# EAGLE library part WL-T7DS_0.39INCH_COMMON-CATHODE (library Wurth_7 Segments Display_WL-T7DS)
WL-T7DS 7 Segments Display THT Single Digit Characteristics Industrial standard size and schematic Low power consumption Grey surface Milky / Diffuesed segments Driving with DC current in forward direction only Suitable for high peak current upto 100 mA Applications Audio / measure equipment Instrument panels Digital read out display Control units <https://www.we-online.com/catalog/media/o447285v209%20WL_T7DS_Group.jpg> Details see: www.we-online.com/catalog/WL-T7DS <www.we-online.com/catalog/WL-T7DS/?utm_source=eagle_model&utm_medium=description_link&utm_campaign=eisos_eagle> Updated by Ella Wu, 2021-09-06 2022 (C) Wurth Elektronik
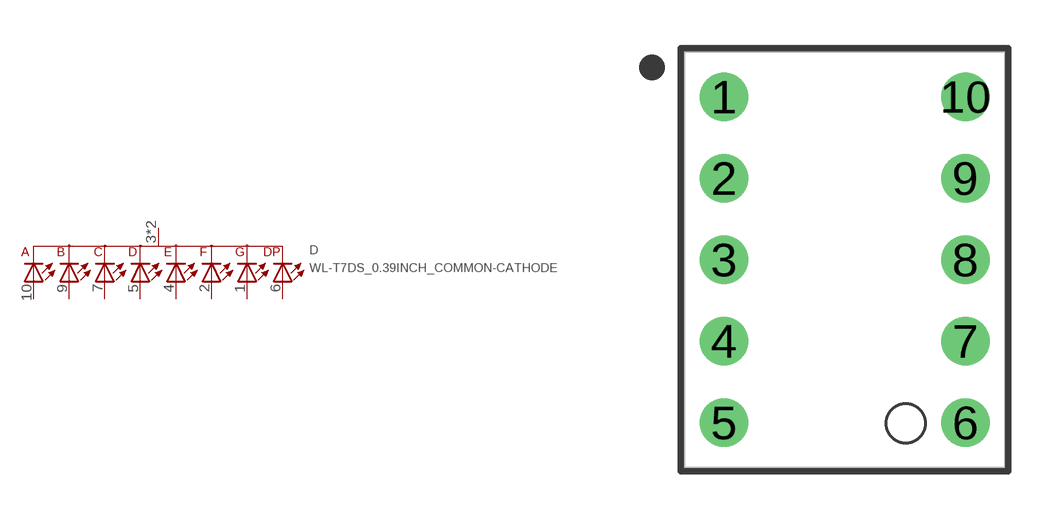
[diagram p4: symbol with the pads of WL-T7DS_0.39INCH; footprint WL-T7DS_0.39INCH]

Designator prefix D

## WL-T7DS_0.39INCH_COMMON-CATHODE_157119B12701 (CIRCUITRY: Common Cathode; DATASHEET-URL: https://www.we-online.com/redexpert/spec/157119B12701?ae; EMITTING-COLOR: Blue; HEIGHT: 7mm; IV-TYP: 32mcd; LENGTH: 13mm; PART-NUMBER: 157119B12701; VALUE: 157119B12701; VF-TYP: 3V; WIDTH: 10mm), WL-T7DS_0.39INCH_COMMON-CATHODE_157119S12701 (CIRCUITRY: Common Cathode; DATASHEET-URL: https://www.we-online.com/redexpert/spec/157119S12701?ae; EMITTING-COLOR: Super Red; HEIGHT: 7mm; IV-TYP: 38mcd; LENGTH: 13mm; PART-NUMBER: 157119S12701; VALUE: 157119S12701; VF-TYP: 2V; WIDTH: 10mm), WL-T7DS_0.39INCH_COMMON-CATHODE_157119V12701 (CIRCUITRY: Common Cathode; DATASHEET-URL: https://www.we-online.com/redexpert/spec/157119V12701?ae; EMITTING-COLOR: Bright Green; HEIGHT: 7mm; IV-TYP: 46mcd; LENGTH: 13mm; PART-NUMBER: 157119V12701; VALUE: 157119V12701; VF-TYP: 2.2V; WIDTH: 10mm)  [WL-T7DS_0.39INCH]
1  10  pas
2  9  pas
3  -  pas
4  1  pas
5  2  pas
6  5  pas
7  4  pas
8  -  pas
9  6  pas
10  7  pas

## Footprint WL-T7DS_0.39INCH (pad centres in mm)
WL-T7DS 7 Segments Display THT Single Digit Size: 0.39inch, THT, 8pins L X W X H=13mm X 10mm X 7mm
drill 1: 1 -3.76,5.08; 2 -3.76,2.54; 3 -3.76,0; 4 -3.76,-2.54; 5 -3.76,-5.08; 6 3.76,-5.08; 7 3.76,-2.54; 8 3.76,0; 9 3.76,2.54; 10 3.76,5.08